# Altium footprint library IND108W.PcbLib: 1 footprints
Each footprint in its own frame and in the unit in brackets; x right, y up, seen from the top. Pads: shape width x height; smd on the part's side, far side on the other; paste and mask are expansions set on the pad; w line width, h text height; cw(c..) or ccw(c..) is an arc to the next point about the centre after c.
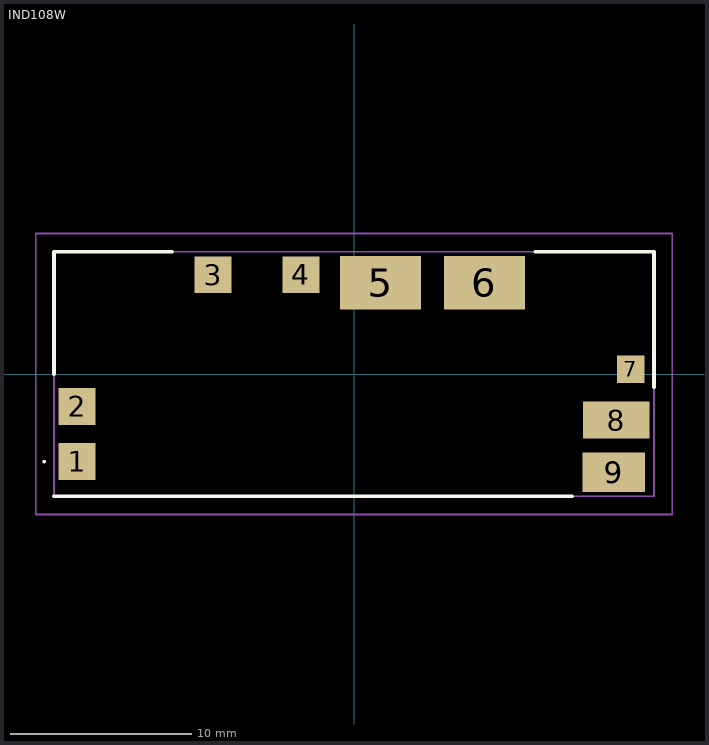
[diagram p0: the footprint, top view; thin cyan lines are the x and y axes]

## IND108W [mm]
pads (9):
  rect 2.03x2.03 smd: 1(-15.24,-4.82) 2(-15.24,-1.78) 3(-7.75,5.46) 4(-2.92,5.46)
  rect 4.45x2.92 smd: 5(1.46,5.02) 6(7.18,5.02)
  rect 1.52x1.52 smd: 7(15.24,0.26)
  rect 3.68x2.03 smd: 8(14.43,-2.54)
  rect 3.43x2.16 smd: 9(14.29,-5.4)
Top Overlay:
  lines w0.1: -17.1,-4.82 -17.1,-4.82 ; -17.1,-4.82 ccw(c-17.05,-4.82) -17,-4.82 ; -17.1,-4.82 cw(c-17.05,-4.82) -17,-4.82 ; -17,-4.82 -17,-4.82
  lines w0.2: -16.51,-6.73 12,-6.73 ; -16.51,0 -16.51,6.73 -10,6.73 ; 9.99,6.73 16.51,6.73 16.51,-0.73
Mechanical 15:
  lines w0.1: -16.51,-6.73 16.51,-6.73 16.51,6.73 -16.51,6.73 -16.51,-6.73
Mechanical 20:
  lines w0.1: -17.51,-7.73 17.51,-7.73 17.51,7.73 -17.51,7.73 -17.51,-7.73